# EAGLE library part APA-102-2020-B (library pwned-io)
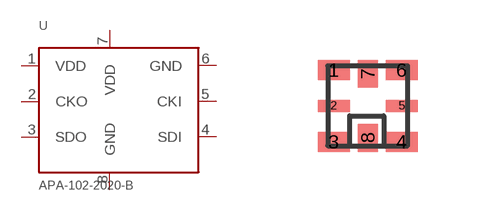
[diagram p1: symbol with the pads of APA-102-2020-B; footprint APA-102-2020-B]

Designator prefix -

## APA-102-2020-B  [APA-102-2020-B]
1  VDD
2  CKO
3  SDO
4  SDI
5  CKI
6  GND
7  VDD
8  GND

## Footprint APA-102-2020-B (pad centres in mm)
smd 0.8 x 0.5: 1 -0.85,0.9; 3 -0.85,-0.9; 4 0.85,-0.9; 6 0.85,0.9
smd 0.8 x 0.3: 2 -0.85,0; 5 0.85,0
smd 0.5 x 0.7: 7 0,0.8; 8 0,-0.8